# Altium footprint library XTAL_HC49SMD 20Mhz  +_-30ppm 20pf.PcbLib: 1 footprints
Each footprint in its own frame and in the unit in brackets; x right, y up, seen from the top. Pads: shape width x height; smd on the part's side, far side on the other; paste and mask are expansions set on the pad; w line width, h text height; cw(c..) or ccw(c..) is an arc to the next point about the centre after c.
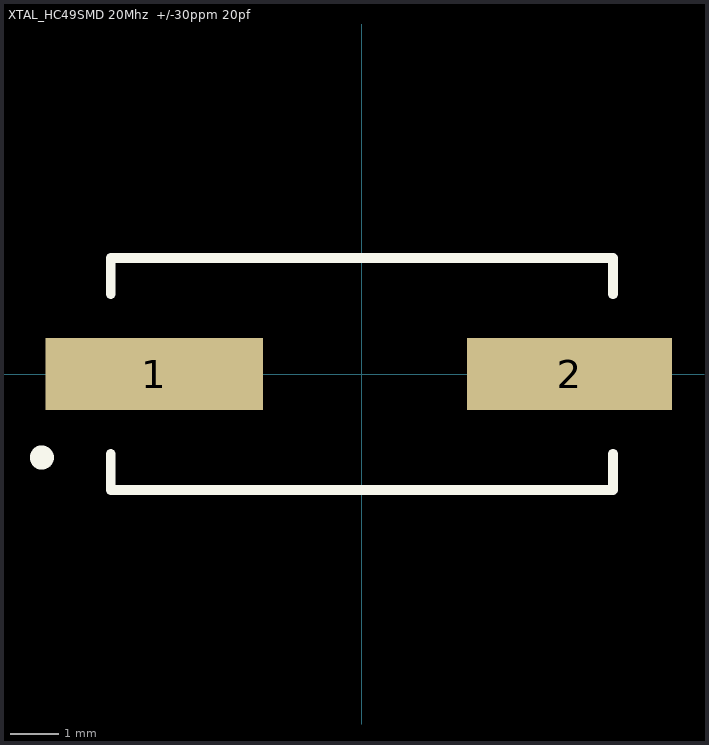
[diagram p0: the footprint, top view; thin cyan lines are the x and y axes]

## XTAL_HC49SMD 20Mhz  +/-30ppm 20pf [mm]
pads (2):
  rect 4.5x1.5 smd: 1(-4.3,0)
  rect 4.25x1.5 smd: 2(4.3,0)
Top Overlay:
  circle w0.25: c-6.625,-1.73 r0.125
  lines w0.2: -5.2,-1.65 -5.2,-2.4 5.2,-2.4 5.2,-1.65 ; -5.2,1.65 -5.2,2.4 5.2,2.4 5.2,1.65